# Altium schematic symbol library SCH - POWER - LINEAR VREG - MPS MPQ4560DN.Schlib: 1 symbol
Pins are listed as number, name and electrical type; pins without a type are passive.

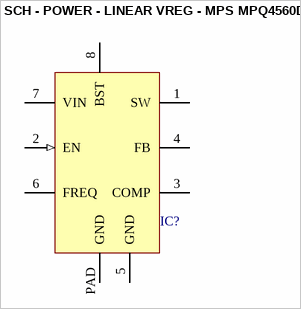
[diagram p0: symbol SCH - POWER - LINEAR VREG - MPS MPQ4560DN]

## SCH - POWER - LINEAR VREG - MPS MPQ4560DN
designator IC?
footprint SOIC8E_MPS (SOIC, 8-Leads, Body 4,90x3,90mm, Pitch 1,27mm, Thermal Pad 3,45.2x2,00.2mm, IPC Medium Density)
pins: 1 SW, 2 EN (in), 3 COMP, 4 FB, 5 GND (power), 6 FREQ, 7 VIN (power), 8 BST, PAD GND (power)